# Altium schematic symbol library HCPL-7800A-300.SchLib: 1 symbol
Pins are listed as number, name and electrical type; pins without a type are passive.

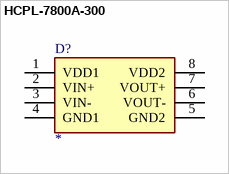
[diagram p0: symbol HCPL-7800A-300]

## HCPL-7800A-300
designator D?
Integrated Circuit; Manufacturer_Name: Avago Technologies; Manufacturer_Part_Number: HCPL-7800A-300; Height: 4.7mm; Mouser Part Number: 630-HCPL-7800A-500
footprint HCPL7800A500
pins: 1 VDD1, 2 VIN+, 3 VIN-, 4 GND1, 5 GND2, 6 VOUT-, 7 VOUT+, 8 VDD2